# Altium integrated library Nicla_BME688_ANNA_Project_IITrpr.IntLib: 24 symbols
Pins are listed as number, name and electrical type; pins without a type are passive.

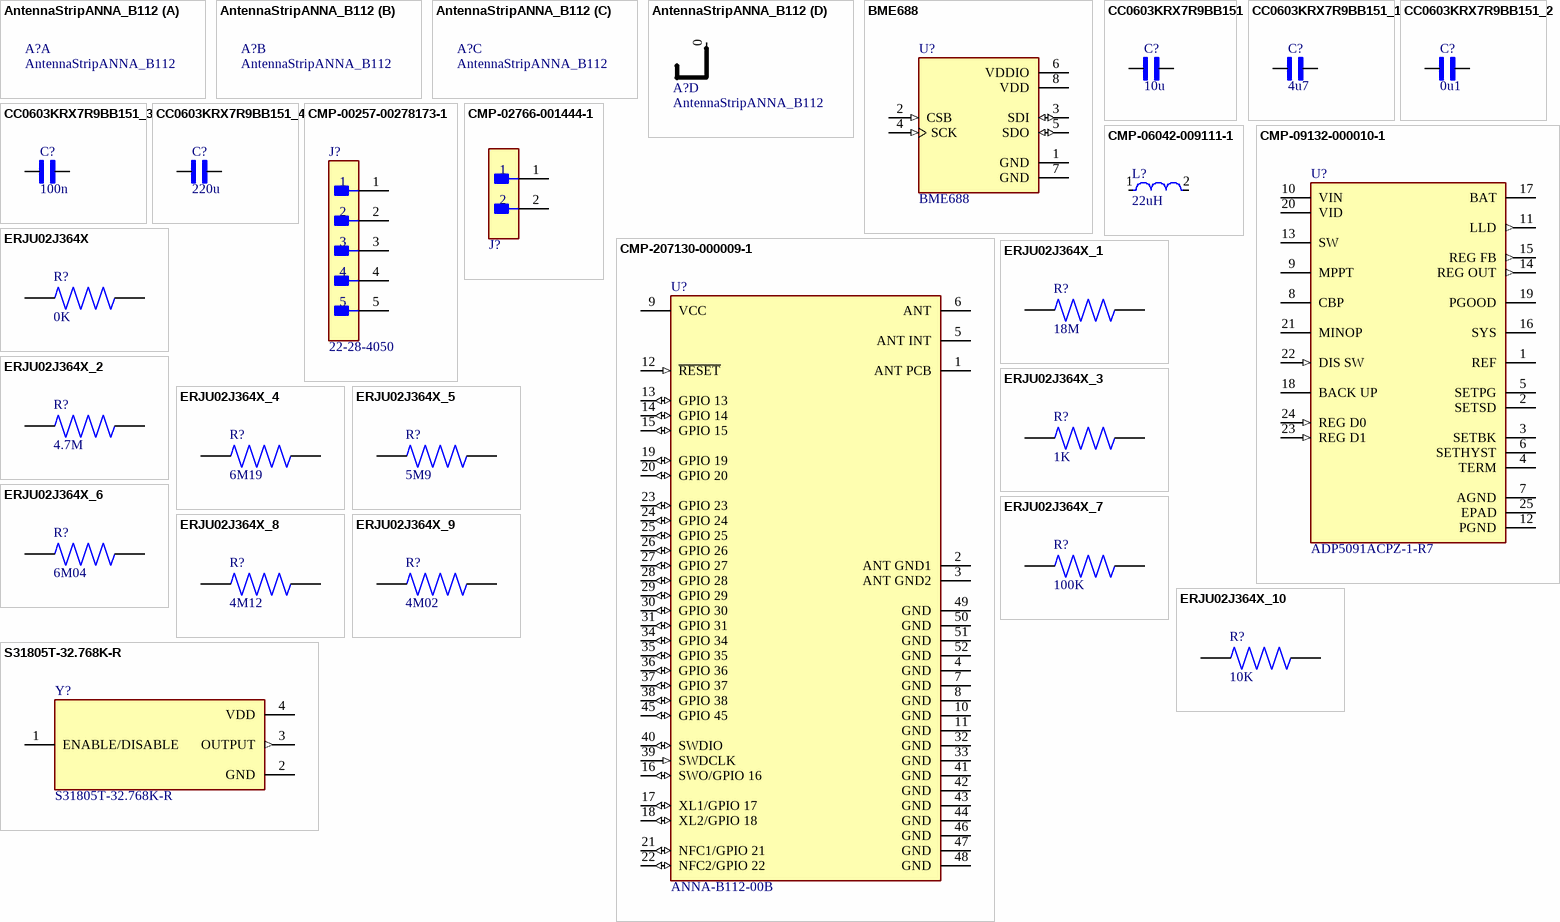
[diagram p0: symbols AntennaStripANNA_B112 to S31805T-32.768K-R]

## AntennaStripANNA_B112
designator A?
Schematic for Antenna Strip for ANNA-B112 INTERNAL Antenna when chip is mounted on corner
footprint ChipAntennaANNAB112 (chip antenna for internal antenna of ANNA-B112 when the chip is mounted on the corner)
part D pins: 0

## BME688
designator U?
Gas sensor measuring relative humidity, barometric pressure, ambient temperature and gas (VOC); Package: None; MP: BME688; Price: None; Availability: Unavailable; Value: *
footprint IC_BME688
footprint IC_BME688
pins: 1 GND (power), 2 CSB (in), 3 SDI (io), 4 SCK (in), 5 SDO (io), 6 VDDIO (power), 7 GND (power), 8 VDD (power)

## CC0603KRX7R9BB151
designator C?, comment 10u
CAPACITOR, 0603, 150PF, 50V; Capacitor Application:General Purpose; Dielectric Characteristic:X7R; Capacitance:150pF; Capacitance Tolerance:Â± 10%; Voltage Rating:50V; Capacitor Case Style:0603; Capacitor Mounting:SMD; Operating Temperature Range:-55Â°C t; MF: Yageo; MP: CC0603KRX7R9BB151; SnapEDA_Link: https://www.snapeda.com/parts/CC0603KRX7R9BB151/Yageo/view-part/?ref=snap; Package: 0603 Yageo; Value: *; Check_prices: https://www.snapeda.com/parts/CC0603KRX7R9BB151/Yageo/view-part/?ref=eda
footprint CAPC1608X90
pins: 1, 2

## CC0603KRX7R9BB151_1
designator C?, comment 4u7
CAPACITOR, 0603, 150PF, 50V; Capacitor Application:General Purpose; Dielectric Characteristic:X7R; Capacitance:150pF; Capacitance Tolerance:Â± 10%; Voltage Rating:50V; Capacitor Case Style:0603; Capacitor Mounting:SMD; Operating Temperature Range:-55Â°C t; MF: Yageo; MP: CC0603KRX7R9BB151; SnapEDA_Link: https://www.snapeda.com/parts/CC0603KRX7R9BB151/Yageo/view-part/?ref=snap; Package: 0603 Yageo; Value: *; Check_prices: https://www.snapeda.com/parts/CC0603KRX7R9BB151/Yageo/view-part/?ref=eda
footprint CAPC1608X90
pins: 1, 2

## CC0603KRX7R9BB151_2
designator C?, comment 0u1
CAPACITOR, 0603, 150PF, 50V; Capacitor Application:General Purpose; Dielectric Characteristic:X7R; Capacitance:150pF; Capacitance Tolerance:Â± 10%; Voltage Rating:50V; Capacitor Case Style:0603; Capacitor Mounting:SMD; Operating Temperature Range:-55Â°C t; MF: Yageo; MP: CC0603KRX7R9BB151; SnapEDA_Link: https://www.snapeda.com/parts/CC0603KRX7R9BB151/Yageo/view-part/?ref=snap; Package: 0603 Yageo; Value: *; Check_prices: https://www.snapeda.com/parts/CC0603KRX7R9BB151/Yageo/view-part/?ref=eda
footprint CAPC1608X90
pins: 1, 2

## CC0603KRX7R9BB151_3
designator C?, comment 100n
CAPACITOR, 0603, 150PF, 50V; Capacitor Application:General Purpose; Dielectric Characteristic:X7R; Capacitance:150pF; Capacitance Tolerance:Â± 10%; Voltage Rating:50V; Capacitor Case Style:0603; Capacitor Mounting:SMD; Operating Temperature Range:-55Â°C t; MF: Yageo; MP: CC0603KRX7R9BB151; SnapEDA_Link: https://www.snapeda.com/parts/CC0603KRX7R9BB151/Yageo/view-part/?ref=snap; Package: 0603 Yageo; Value: *; Check_prices: https://www.snapeda.com/parts/CC0603KRX7R9BB151/Yageo/view-part/?ref=eda
footprint CAPC1608X90
pins: 1, 2

## CC0603KRX7R9BB151_4
designator C?, comment 220u
1210; MF: Yageo; MP: CC0603KRX7R9BB151; SnapEDA_Link: https://www.snapeda.com/parts/CC0603KRX7R9BB151/Yageo/view-part/?ref=snap; Package: 0603 Yageo; Value: *; Check_prices: https://www.snapeda.com/parts/CC0603KRX7R9BB151/Yageo/view-part/?ref=eda
footprint CAPC3325X152N
pins: 1, 2

## CMP-00257-00278173-1
designator J?, comment 22-28-4050
22-28-4050 KK® 254 Breakaway Header, Vertical, 5 Circuits, Tin (Sn) Plating, Mating Pin Length 6.09mm; NexarPartId: 278173; Voltage Rating: 250V; Number of Contacts: 5; Contact Resistance: 20mΩ; Gender: Male; Pitch: 2.54mm; Connector Type: Male Pin; Current Rating: 4A; Glow Wire Compliant: Non-compliant; Max Voltage Rating (DC): 250.25kV; Flammability Rating: UL94 V-0; Min Operating Temperature: 0°C; REACH SVHC: Unknown; Lead Free: Lead Free; Termination: Solder; RoHS: Compliant; Schedule B: 8536694040; Number of Circuits: 5; Mount: Through Hole; Lead Pitch: 2.54mm; Height: 2.29mm; Voltage Rating (DC): 250V; Max Operating Temperature: 75°C; Width: 2.49mm; Radiation Hardening: No; Contact Plating: Tin; Orientation: Vertical; Length: 12.7mm; Number of Rows: 1; Housing Material: Thermoplastic; Contact Material: Brass; Packaging: Bulk; Contact Mating Length: 6.096mm; Housing Color: Black; Color: Black; Number of Positions: 5
footprint FP-22-28-4050-MFG (KK® 254 Breakaway Header, Vertical, 5 Circuits, Tin (Sn) Plating, Mating Pin Length 6.09mm)
pins: 1, 2, 3, 4, 5

## CMP-02766-001444-1
designator J?, comment TSW-102-12-T-S  (value not drawn)
CONN HEADER VERT 2POS 2.54MM; Gender: Male; Number of Contacts: 2; RoHS Compliant: Yes; Mount: Through Hole; Termination: Solder; Packaging: Bulk; Contact Material: Bronze; Contact Plating: Tin; Number of Rows: 1; REACH SVHC: No SVHC; Pitch: 2.54mm; Radiation Hardening: No
footprint FP-TSW-102-12-T-S-MFG
pins: 1, 2

## CMP-06042-009111-1
designator L?, comment 22uH
Wire Wound Ferrite Inductor for Power Lines For Automotive 22μH ±20% 0.48Ω 860mA 1212; DC Resistance (DCR): 480mR; Test Frequency: 1MHz; Self Resonant Frequency: 10MHz; Saturation Current: 570mA; Shielding: Shielded; Ratings: AEC-Q200; Tolerance: 20%; Resistor Type: Wirewound; Case Code (Imperial): 1212; Current Rating: 860mA; Core Material: Ferrite; Packaging: Cut Tape; Inductance: 22uH; Case Code (Metric): 3030; Min Operating Temperature: -40°C; Mount: Surface Mount; Max Operating Temperature: 85°C; Case/Package: 1212
footprint FP-LQH3NPH_ME-MFG
pins: 1, 2

## CMP-09132-000010-1
designator U?, comment ADP5091ACPZ-1-R7
IC BATT CHG MULTI-CHEM 24LFCSP; Manufacturer: Analog Devices Inc.; Output Current: 150mA; Standoff Height: 0.02mm; Max Supply Voltage: 3.3V; Output Voltage: 1.5-3.6V; Nominal Supply Current: 0.51-0.76uA; Min Supply Voltage: 0.08V; Package: CP-24-14; Temperature Range Low: -40°C; Ipc Land Pattern Name: QFN50P400X400X75-24; Device Class L1: Integrated Circuits (ICs); Mouser Description: Ultralow Power Energy Harvester PMU with MPPT and Charge Management; ComponentLink2URL: https://www.analog.com/media/en/technical-documentation/data-sheets/ADP5091-5092.pdf; Height: 0.8mm; Device Class L3: Battery Management; Device Class L2: Power Management ICs; ComponentLink2Description: Datasheet; Octopart: https://octopart.com/adp5091acpz-1-r7-analog+devices-71032930; Temperature: -40°C to +125°C; Automotive: No; Category: IC; Temperature Range High: +125°C; RoHS: TRUE; Manufacturer Part Number: ADP5091ACPZ-1-R7; Lead Free: Yes; Digikey Description: IC BATT CHG MULTI-CHEM 24LFCSP
footprint FP-CP-24-14-IPC_C
footprint FP-CP-24-14-IPC_B
footprint FP-CP-24-14-IPC_A
pins: 1 REF (power), 2 SETSD, 3 SETBK, 4 TERM, 5 SETPG, 6 SETHYST, 7 AGND (power), 8 CBP, 9 MPPT, 10 VIN (power), 11 LLD (out), 12 PGND (power), 13 SW, 14 REG OUT (out), 15 REG FB (out), 16 SYS (power), 17 BAT (power), 18 BACK UP (power), 19 PGOOD (power), 20 VID (power), 21 MINOP (power), 22 DIS SW (in), 23 REG D1 (in), 24 REG D0 (in), 25 EPAD (power)

## CMP-207130-000009-1
designator U?, comment ANNA-B112-00B
RF RECEIVER GFSK 2.4GHZ; Manufacturer: U-Blox; Max Supply Voltage: 3.6V; Sensitivity: -91dBm; Min Supply Voltage: 1.7V; Interface: I2C,SPI,UART,I2S; Nominal Supply Current: 3.7mA; Number Of Adc Channels: 8; Transmitting Current: 5.3mA; Number Of Gpio: 25; Receiving Current: 5.4mA; Data Rate: 2Mbits/s; ComponentLink2Description: Datasheet; Manufacturer Part Number: ANNA-B112-00B; Digikey Description: RF RECEIVER GFSK 2.4GHZ; Device Class L1: Integrated Circuits (ICs); Height: 1.25mm; Octopart: https://octopart.com/anna-b112-00b-u-blox-97577862; Temperature: -40°C to +85°C; RoHS: TRUE; Temperature Range Low: -40°C; Max Frequency: 2.4GHz; Device Class L3: Transceivers; Automotive: No; Package: SMD_MD_6MM5_6MM5; Category: UNK; Temperature Range High: +85°C; ComponentLink2URL: https://www.u-blox.com/sites/default/files/ANNA-B112_DataSheet_%28UBX-18011707%29.pdf; Device Class L2: RF Semiconductors and Devices; Lead Free: Yes
footprint FP-ANNA-B112-00B-0
pins: 1 ANT PCB, 2 ANT GND1 (power), 3 ANT GND2 (power), 4 GND (power), 5 ANT INT, 6 ANT, 7 GND (power), 8 GND (power), 9 VCC (power), 10 GND (power), 11 GND (power), 12 ~{RESET} (in), 13 GPIO 13 (io), 14 GPIO 14 (io), 15 GPIO 15 (io), 16 SWO/GPIO 16 (io), 17 XL1/GPIO 17 (io), 18 XL2/GPIO 18 (io), 19 GPIO 19 (io), 20 GPIO 20 (io), 21 NFC1/GPIO 21 (io), 22 NFC2/GPIO 22 (io), 23 GPIO 23 (io), 24 GPIO 24 (io), 25 GPIO 25 (io), 26 GPIO 26 (io), 27 GPIO 27 (io), 28 GPIO 28 (io), 29 GPIO 29 (io), 30 GPIO 30 (io), 31 GPIO 31 (io), 32 GND (power), 33 GND (power), 34 GPIO 34 (io), 35 GPIO 35 (io), 36 GPIO 36 (io), 37 GPIO 37 (io), 38 GPIO 38 (io), 39 SWDCLK (in), 40 SWDIO (io), 41 GND (power), 42 GND (power), 43 GND (power), 44 GND (power), 45 GPIO 45 (io), 46 GND (power), 47 GND (power), 48 GND (power), 49 GND (power), 50 GND (power), 51 GND (power), 52 GND (power)

## ERJU02J364X
designator R?, comment 0K
MP: ERJU02J364X; Value: *; Package: None; Availability: Unavailable; Price: None
footprint RES_ERJU03J682V
pins: 1, 2

## ERJU02J364X_1
designator R?, comment 18M
0603; MP: ERJU02J364X; Value: *; Package: None; Availability: Unavailable; Price: None
footprint RES_ERJU03J682V
pins: 1, 2

## ERJU02J364X_2
designator R?, comment 4.7M
0603; MP: ERJU02J364X; Value: *; Package: None; Availability: Unavailable; Price: None
footprint RES_ERJU03J682V
pins: 1, 2

## ERJU02J364X_3
designator R?, comment 1K
MP: ERJU02J364X; Value: *; Package: None; Availability: Unavailable; Price: None
footprint RES_ERJU03J682V
pins: 1, 2

## ERJU02J364X_4
designator R?, comment 6M19
0603; MP: ERJU02J364X; Value: *; Package: None; Availability: Unavailable; Price: None
footprint RES_ERJU03J682V
pins: 1, 2

## ERJU02J364X_5
designator R?, comment 5M9
0603; MP: ERJU02J364X; Value: *; Package: None; Availability: Unavailable; Price: None
footprint RES_ERJU03J682V
pins: 1, 2

## ERJU02J364X_6
designator R?, comment 6M04
0603; MP: ERJU02J364X; Value: *; Package: None; Availability: Unavailable; Price: None
footprint RES_ERJU03J682V
pins: 1, 2

## ERJU02J364X_7
designator R?, comment 100K
0603; MP: ERJU02J364X; Value: *; Package: None; Availability: Unavailable; Price: None
footprint RES_ERJU03J682V
pins: 1, 2

## ERJU02J364X_8
designator R?, comment 4M12
0603; MP: ERJU02J364X; Value: *; Package: None; Availability: Unavailable; Price: None
footprint RES_ERJU03J682V
pins: 1, 2

## ERJU02J364X_9
designator R?, comment 4M02
0603; MP: ERJU02J364X; Value: *; Package: None; Availability: Unavailable; Price: None
footprint RES_ERJU03J682V
pins: 1, 2

## ERJU02J364X_10
designator R?, comment 10K
MP: ERJU02J364X; Value: *; Package: None; Availability: Unavailable; Price: None
footprint RES_ERJU03J682V
pins: 1, 2

## S31805T-32.768K-R
designator Y?
Package: None; Price: None; Value: *; MP: S31805T-32.768K-R; Availability: Unavailable
footprint OSC_S31805T-32.768K-R
pins: 1 ENABLE/DISABLE, 2 GND (power), 3 OUTPUT (out), 4 VDD (power)